# Altium schematic symbol library lib_ic_RES.SchLib: 51 symbols
Pins are listed as number, name and electrical type; pins without a type are passive.

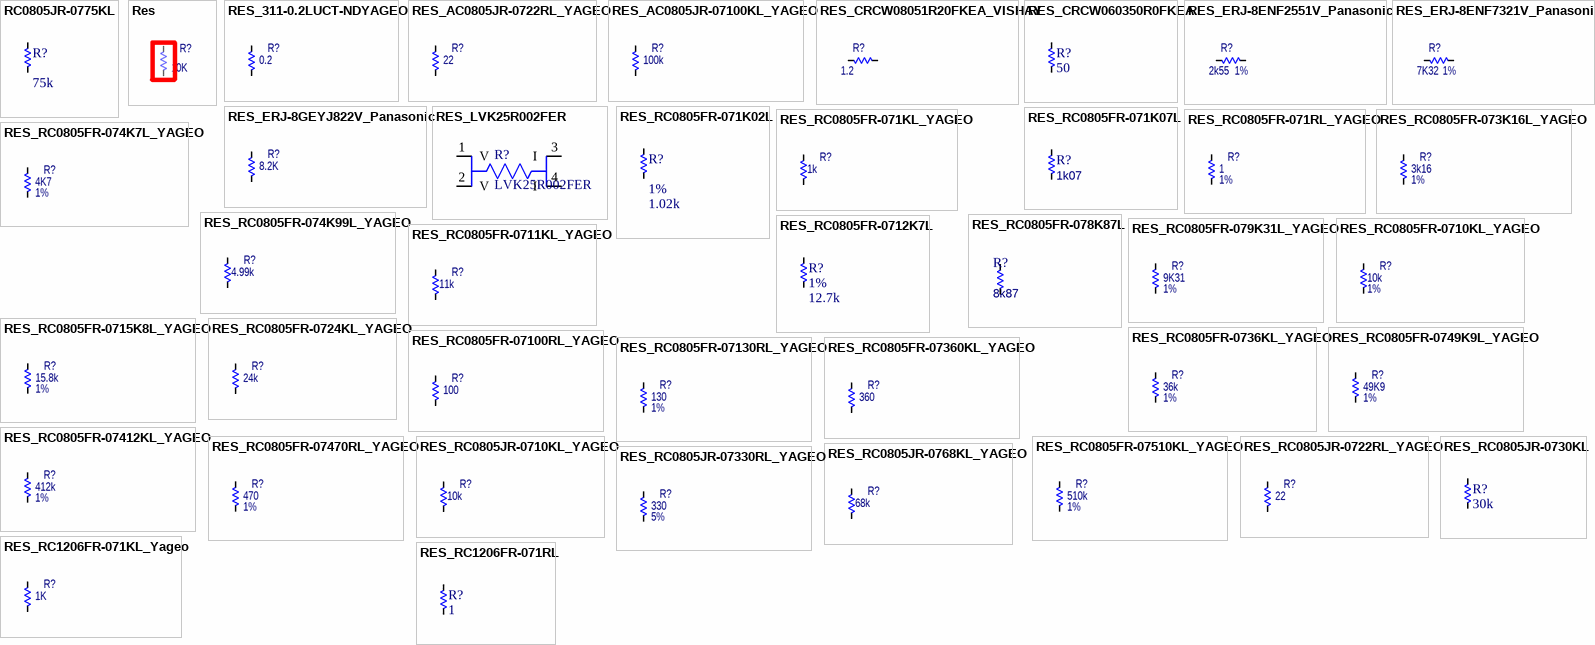
[diagram p0: symbols RC0805JR-0775KL to RES_RC1206FR-071RL]

## RC0805JR-0775KL
designator R?  value 75k  (hidden comment: *)
Res Thick Film 0805 75K Ohm 5% 0.125W(1/8W) ±100ppm/C Molded SMD Paper T/R; Manufacturer: Yageo; Manufacturer Part Number: RC0805JR-0775KL; Temperature Coefficient: 100ppm/°C; Power Rating: 125mW; Voltage Rating: 150V; Supplier 1: Digi-Key; Supplier Part Number 1: 311-75KARCT-ND; Category: Chip SMD Resistors; Case/Package: 0805; Contact Plating: Tin,Matte,Lead; Case Code (Imperial): 0805; Case Code (Metric): 2012; Size Code: 0805; Min Operating Temperature: -55°C; Max Operating Temperature: 155°C; Tolerance: 5%; Resistor Type: Thick Film; Packaging: Tape and Reel; Construction: Rectangular; Termination: SMD/SMT; Series: RC; Number of Terminations: 2; Max Power Dissipation: 125mW; Features: Moisture Resistant; Voltage Rating (DC): 150V; Package Quantity: 1; Length: 2mm; Width: 1.25mm; Height: 0.024inch; Depth: 1.25mm; Radiation Hardening: No; Military Standard: Not; RoHS Compliant: Yes; Lead Free: Lead Free; ComponentLink1URL: https://datasheet.ciiva.com/2519/pyu-r-int-thick-7-2519243.pdf?src-supplier=Digi-Key; ComponentLink1Description: https://datasheet.ciiva.com/2519/pyu-r-int-thick-7-2519243.pdf?src-supplier=Digi-Key; ComponentLink2URL: https://datasheet.ciiva.com/2519/pyu-r-int-thick-7-2519244.pdf?src-supplier=Digi-Key; ComponentLink2Description: https://datasheet.ciiva.com/2519/pyu-r-int-thick-7-2519244.pdf?src-supplier=Digi-Key; ComponentLink3URL: https://datasheet.ciiva.com/17361/rc0805-17361116.pdf?src-supplier=Future+Electronics; ComponentLink3Description: https://datasheet.ciiva.com/17361/rc0805-17361116.pdf?src-supplier=Future+Electronics; ComponentLink4URL: https://datasheet.ciiva.com/2519/pyu-r-int-thick-7-2519245.pdf?src-supplier=Digi-Key; ComponentLink4Description: https://datasheet.ciiva.com/2519/pyu-r-int-thick-7-2519245.pdf?src-supplier=Digi-Key
footprint RESC2013X065BN (Chip Resistor, 0805, Body 2.0x1.3mm, Pads modified for 1mm spacing.)
pins: 1 T1, 2 T2

## Res
designator R?  value 10K  (hidden comment: *)
Res; Manufacturer: Yageo; Tolerance: 1%; Power Rating: 1/4W; BOM Populate: *; Supplier Part No: *; Supplier: *; Digikey Part Number: 311-10.0KFRCT-ND
footprint RESC2013X065BN (Chip Resistor, 0805, Body 2.0x1.3mm, Pads modified for 1mm spacing.)
pins: 1 T1, 2 T2

## RES_311-0.2LUCT-NDYAGEO
designator R?  value 0.2  (hidden comment: *)
RES 0.2 OHM 1% 1/4W 0805; Manufacturer: Yageo; Manufacturer Part Number: RL0805FR-7W0R2L.; Tolerance: 1%; Digikey Part Number: 311-0.2LUCT-ND; Power Rating: 1/4W; Mouser Part Number: 603-RL0805FR-7W0R2L
footprint RESC2013X065BN (Chip Resistor, 0805, Body 2.0x1.3mm, Pads modified for 1mm spacing.)
pins: 1 T1, 2 T2

## RES_AC0805JR-0722RL_YAGEO
designator R?  value 22  (hidden comment: *)
RES SMD 22 OHM 5% 1/8W 0805; Manufacturer: Yageo; Manufacturer Part Number: AC0805JR-0722RL; BOM Populate: *; Supplier Part No: *; Supplier: *; Tolerance: 5%; Digikey Part Number: 311-22ARCT-ND; Power Rating: 1/8W; Mouser Part Number: 603-AC0805JR-0722RL
footprint RESC2013X065BN (Chip Resistor, 0805, Body 2.0x1.3mm, Pads modified for 1mm spacing.)
pins: 1 T1, 2 T2

## RES_AC0805JR-07100KL_YAGEO
designator R?  value 100k  (hidden comment: *)
RES SMD 100K OHM 5% 1/8W 0805; Manufacturer: Yageo; Manufacturer Part Number: AC0805JR-07100KL; BOM Populate: *; Supplier Part No: *; Supplier: *; Tolerance: 5%; Digikey Part Number: YAG3756CT-ND; Power Rating: 1/8W; Mouser Part Number: 603-AC0805JR-07100KL
footprint RESC2013X065BN (Chip Resistor, 0805, Body 2.0x1.3mm, Pads modified for 1mm spacing.)
pins: 1 T1, 2 T2

## RES_CRCW08051R20FKEA_VISHAY
designator R?  value 1.2  (hidden comment: *)
RES SMD 1.2 OHM 1% 1/8W 0805; Manufacturer: Vishay Dale; Manufacturer Part Number: CRCW08051R20FKEA; Digikey Part Number: 541-1.20CCCT-ND; Power Rating: 1/8W; Mouser Part Number: 71-CRCW08051R20FKEA; Tolerance: 1%
footprint RESC2013X065BN (Chip Resistor, 0805, Body 2.0x1.3mm, Pads modified for 1mm spacing.)
pins: 1 T1, 2 T2

## RES_CRCW060350R0FKEA
designator R?, comment value 50  (hidden comment: CRCW060350R0FKEA)
VISHAY - CRCW060350R0FKEA - SMD Chip Resistor, 0603 [1608 Metric], 50 ohm, CRCW e3 Series, 75 V, Thick Film, 100 mW; Manufacturer: Vishay Dale; Tolerance: 1%; Resistance: 50R; Temperature Coefficient: 100ppm/°C; Voltage Rating: 75V; Power Rating: 100mW; Supplier 1: Digi-Key; Supplier Part Number 1: 541-3318-1-ND; Manufacturer Part Number: CRCW060350R0FKEA; RoHS: Yes; Category: Chip SMD Resistors; Stock 1: 71586; Pricing 1: 1=0,10000, 10=0,03600, 100=0,01480, 1000=0,00663, 2500=0,00575 (USD); Mount: Surface Mount; Case/Package: 0603; Number of Pins: 2; Contact Plating: Tin; Weight: 7.1E-05oz; Case Code (Imperial): 0603; Case Code (Metric): 1608; Min Operating Temperature: -55°C; Max Operating Temperature: 155°C; Resistor Type: Thick Film; Packaging: Tape and Reel; Package Quantity: 5000; Termination: SMD/SMT; Voltage Rating (DC): 75V; Length: 1.55mm; Width: 0.85mm; Height: 0.45mm; Depth: 0.85mm; Radiation Hardening: No; REACH SVHC: No SVHC; Military Standard: Not; Lead Free: Lead Free; ComponentLink1URL: https://datasheet.ciiva.com/7792/1359338-7792320.pdf?src-supplier=Element14; ComponentLink1Description: https://datasheet.ciiva.com/7792/1359338-7792320.pdf?src-supplier=Element14; ComponentLink2URL: https://datasheet.ciiva.com/7657/1786679-7657103.pdf?src-supplier=Element14; ComponentLink2Description: https://datasheet.ciiva.com/7657/1786679-7657103.pdf?src-supplier=Element14; ComponentLink3URL: https://datasheet.ciiva.com/22665/1697183-22665684.pdf?src-supplier=Element14; ComponentLink3Description: https://datasheet.ciiva.com/22665/1697183-22665684.pdf?src-supplier=Element14; ComponentLink4URL: https://datasheet.ciiva.com/6195/1359338-6195078.pdf?src-supplier=Farnell; ComponentLink4Description: https://datasheet.ciiva.com/6195/1359338-6195078.pdf?src-supplier=Farnell; ComponentLink5URL: https://datasheet.ciiva.com/16884/dcrcwe3-16884668.pdf?src-supplier=Avnet+Europe; ComponentLink5Description: https://datasheet.ciiva.com/16884/dcrcwe3-16884668.pdf?src-supplier=Avnet+Europe; ComponentLink6URL: https://datasheet.ciiva.com/16494/dcrcwe3-16494475.pdf?src-supplier=Future+Electronics; ComponentLink6Description: https://datasheet.ciiva.com/16494/dcrcwe3-16494475.pdf?src-supplier=Future+Electronics; ComponentLink7URL: https://datasheet.ciiva.com/16784/70201119-16784459.pdf?src-supplier=Allied+Electronics; ComponentLink7Description: https://datasheet.ciiva.com/16784/70201119-16784459.pdf?src-supplier=Allied+Electronics; ComponentLink8URL: https://datasheet.ciiva.com/16720/70201119-16720645.pdf?src-supplier=Allied+Electronics; ComponentLink8Description: https://datasheet.ciiva.com/16720/70201119-16720645.pdf?src-supplier=Allied+Electronics; ComponentLink9URL: https://datasheet.ciiva.com/6195/dcrcwe3-6195095.pdf?src-supplier=Farnell; ComponentLink9Description: https://datasheet.ciiva.com/6195/dcrcwe3-6195095.pdf?src-supplier=Farnell; ComponentLink10URL: https://datasheet.ciiva.com/5550/dcrcwe3-109170-5550010.pdf?src-supplier=Mouser; ComponentLink10Description: https://datasheet.ciiva.com/5550/dcrcwe3-109170-5550010.pdf?src-supplier=Mouser
footprint RES_RCS0603E3_VISHAY
pins: 1 T1, 2 T2

## RES_ERJ-8ENF2551V_Panasonic
designator R?  value 2k55  Tolerance: 1%  (hidden comment: *)
RES SMD 2.55K OHM 1% 1/4W 1206; Manufacturer: Panasonic; Manufacturer Part Number: ERJ-8ENF2551V; BOM Populate: *; Supplier Part No: *; Supplier: *; Digikey Part Number: P2.55KFCT-ND; Power Rating: 1/4W; Mouser Part Number: 667-ERJ-8ENF2551V
footprint RESC3216N (Chip Resistor, Body 3.2x1.6mm, IPC Medium Density)
pins: 1 T1, 2 T2

## RES_ERJ-8ENF7321V_Panasonic
designator R?  value 7K32  Tolerance: 1%  (hidden comment: *)
RES SMD 7.32K OHM 1% 1/4W 1206; Manufacturer: Panasonic; Manufacturer Part Number: ERJ-8ENF7321V; BOM Populate: *; Supplier Part No: *; Supplier: *; Digikey Part Number: P7.32KFCT-ND; Power Rating: 1/4W; Mouser Part Number: 667-ERJ-8ENF7321V
footprint RESC3216N (Chip Resistor, Body 3.2x1.6mm, IPC Medium Density)
pins: 1 T1, 2 T2

## RES_ERJ-8GEYJ822V_Panasonic
designator R?  value 8.2K  (hidden comment: *)
RES SMD 8.2K OHM 5% 1/4W 1206; Manufacturer: Panasonic; Manufacturer Part Number: ERJ-8GEYJ822V; BOM Populate: *; Supplier Part No: *; Supplier: *; Tolerance: 5%; Digikey Part Number: P8.2KECT-ND; Power Rating: 1/4W; Mouser Part Number: 667-ERJ-8GEYJ822V
footprint RESC3216N (Chip Resistor, Body 3.2x1.6mm, IPC Medium Density)
pins: 1 T1, 2 T2

## RES_LVK25R002FER
designator R?, comment LVK25R002FER
RES 0.002 OHM 2W 2512 WIDE; Manufacturer: Ohmite; Temperature Coefficient: 200ppm/°C; Resistance: 2mR; Tolerance: 1%; Supplier 1: Digi-Key; Supplier Part Number 1: LVK25R002FERCT-ND; Manufacturer Part Number: LVK25R002FER; RoHS: Yes; Category: Chip SMD Resistors; Stock 1: 30986; Pricing 1: 1=1,98000, 10=1,76000, 25=1,63200, 50=1,53600, 100=1,34400, 250=1,15200, 500=0,96000 (USD); Mount: Surface Mount; Case/Package: 1224; Number of Pins: 2; Case Code (Metric): 3264; Case Code (Imperial): 1224; Min Operating Temperature: -40°C; Max Operating Temperature: 125°C; Termination: SMD/SMT; Power Rating: 2W; Packaging: Tape and Reel; Package Quantity: 1000; Resistor Type: Metal Film,Thick Film,Thin Film; Length: 3.2mm; Width: 6.4mm; Height: 0.5mm; Depth: 6.4mm; REACH SVHC: Unknown; ComponentLink1URL: https://datasheet.ciiva.com/28655/1928848-28655701.pdf?src-supplier=Element14; ComponentLink1Description: https://datasheet.ciiva.com/28655/1928848-28655701.pdf?src-supplier=Element14; ComponentLink2URL: https://datasheet.ciiva.com/5970/575641-5970646.pdf?src-supplier=Farnell; ComponentLink2Description: https://datasheet.ciiva.com/5970/575641-5970646.pdf?src-supplier=Farnell; ComponentLink3URL: https://datasheet.ciiva.com/16783/70024650-16783654.pdf?src-supplier=Allied+Electronics; ComponentLink3Description: https://datasheet.ciiva.com/16783/70024650-16783654.pdf?src-supplier=Allied+Electronics; ComponentLink4URL: https://datasheet.ciiva.com/46385/1786747-46385481.pdf?src-supplier=Element14; ComponentLink4Description: https://datasheet.ciiva.com/46385/1786747-46385481.pdf?src-supplier=Element14; ComponentLink5URL: https://datasheet.ciiva.com/15865/40lvk-15865323.pdf?src-supplier=Onlinecomponents.com; ComponentLink5Description: https://datasheet.ciiva.com/15865/40lvk-15865323.pdf?src-supplier=Onlinecomponents.com; ComponentLink6URL: https://datasheet.ciiva.com/7715/575641-7715549.pdf?src-supplier=Element14; ComponentLink6Description: https://datasheet.ciiva.com/7715/575641-7715549.pdf?src-supplier=Element14; ComponentLink7URL: https://datasheet.ciiva.com/7715/575641-7715550.pdf?src-supplier=Element14; ComponentLink7Description: https://datasheet.ciiva.com/7715/575641-7715550.pdf?src-supplier=Element14
footprint RES_LVK25R002FER
pins: 1 V, 2 V, 3 I, 4 I

## RES_RC0805FR-071K02L
designator R?  value 1.02k  Tolerance: 1%  (hidden comment: *)
RES SMD 1.02K OHM 1% 1/8W 0805; Manufacturer: Yageo; Manufacturer Part Number: RC0805FR-071K02L; Voltage Rating: 150V; Power Rating: 125mW; Temperature Coefficient: 100ppm/°C; Supplier 1: Digi-Key; Supplier Part Number 1: 311-1.02KCRCT-ND; Category: Chip SMD Resistors; Case/Package: 0805; Case Code (Imperial): 0805; Case Code (Metric): 2012; Size Code: 0805; Min Operating Temperature: -55°C; Max Operating Temperature: 155°C; Packaging: Tape and Reel; Termination: SMD/SMT; Resistor Type: Thick Film; Voltage Rating (DC): 150V; Features: Moisture Resistant; Series: RC; Max Power Dissipation: 125mW; Number of Terminations: 2; Construction: Rectangular; Length: 2mm; Width: 1.25mm; Height: 0.5mm; Depth: 1.25mm; Military Standard: Not; Lead Free: Lead Free; RoHS Compliant: Yes; ComponentLink1URL: https://datasheet.ciiva.com/12557/rc0805-257173-12557847.pdf?src-supplier=Mouser; ComponentLink1Description: https://datasheet.ciiva.com/12557/rc0805-257173-12557847.pdf?src-supplier=Mouser; ComponentLink2URL: https://datasheet.ciiva.com/16746/rc0805-16746216.pdf?src-supplier=Future+Electronics; ComponentLink2Description: https://datasheet.ciiva.com/16746/rc0805-16746216.pdf?src-supplier=Future+Electronics
footprint RESC2013X065BN (Chip Resistor, 0805, Body 2.0x1.3mm, Pads modified for 1mm spacing.)
pins: 1 T1, 2 T2

## RES_RC0805FR-071K07L
designator R?  value 1k07  (hidden comment: *)
Res Thick Film 0805 1.07K Ohm 1% 1/8W 100ppm/C Molded SMD Paper T/R; Manufacturer: Yageo; Manufacturer Part Number: RC0805FR-071K07L; Resistance: 1.07kR; Temperature Coefficient: 100ppm/°C; Power Rating: 125mW; Voltage Rating: 150V; Supplier 1: Digi-Key; RoHS: Yes; Category: Chip SMD Resistors; Stock 1: 47079; Pricing 1: 1=0,10000, 10=0,04000, 100=0,01620, 1000=0,00726, 2500=0,00630 (USD); Case/Package: 0805; Contact Plating: Tin,Matte; Case Code (Imperial): 0805; Case Code (Metric): 2012; Size Code: 0805; Min Operating Temperature: -55°C; Max Operating Temperature: 155°C; Tolerance: 1%; Resistor Type: Thick Film; Packaging: Tape and Reel; Package Quantity: 1; Termination: SMD/SMT; Number of Terminations: 2; Max Power Dissipation: 125mW; Voltage Rating (DC): 150V; Features: Moisture Resistant; Series: RC; Construction: Rectangular; Length: 2mm; Width: 1.25mm; Height: 0.024inch; Depth: 1.25mm; Military Standard: Not; Lead Free: Lead Free; RoHS Compliant: Yes; ComponentLink1URL: https://datasheet.ciiva.com/17054/rc0805-17054582.pdf?src-supplier=Future+Electronics; ComponentLink1Description: https://datasheet.ciiva.com/17054/rc0805-17054582.pdf?src-supplier=Future+Electronics; ComponentLink2URL: https://datasheet.ciiva.com/2491/pyu-r-int-thick-7-2491690.pdf?src-supplier=Digi-Key; ComponentLink2Description: https://datasheet.ciiva.com/2491/pyu-r-int-thick-7-2491690.pdf?src-supplier=Digi-Key; ComponentLink3URL: https://datasheet.ciiva.com/2491/pyu-r-int-thick-7-2491691.pdf?src-supplier=Digi-Key; ComponentLink3Description: https://datasheet.ciiva.com/2491/pyu-r-int-thick-7-2491691.pdf?src-supplier=Digi-Key; ComponentLink4URL: https://datasheet.ciiva.com/2491/pyu-r-int-thick-7-2491692.pdf?src-supplier=Digi-Key; ComponentLink4Description: https://datasheet.ciiva.com/2491/pyu-r-int-thick-7-2491692.pdf?src-supplier=Digi-Key; Supplier Part Number 1: 311-1.07KCRCT-ND
footprint RESC2013X065BN (Chip Resistor, 0805, Body 2.0x1.3mm, Pads modified for 1mm spacing.)
pins: 1 T1, 2 T2

## RES_RC0805FR-071KL_YAGEO
designator R?  value 1k  (hidden comment: *)
RES SMD 1K OHM 1% 1/8W 0805; Manufacturer: Yageo; Manufacturer Part Number: RC0805FR-071KL; Tolerance: 1%; Digikey Part Number: 311-1.00KCRCT-ND; Power Rating: 1/8W; Mouser Part Number: 603-RC0805FR-071KL
footprint RESC2013X065BN (Chip Resistor, 0805, Body 2.0x1.3mm, Pads modified for 1mm spacing.)
pins: 1 T1, 2 T2

## RES_RC0805FR-071RL_YAGEO
designator R?  value 1  Tolerance: 1%  (hidden comment: *)
RES SMD 1 OHM 1% 1/8W 0805; Manufacturer: Yageo; Manufacturer Part Number: RC0805FR-071RL; BOM Populate: *; Supplier Part No: *; Supplier: *; Digikey Part Number: 311-1.00CRCT-ND; Power Rating: 1/8W; Mouser Part Number: 603-RC0805FR-071RL
footprint RESC2013X065BN (Chip Resistor, 0805, Body 2.0x1.3mm, Pads modified for 1mm spacing.)
pins: 1 T1, 2 T2

## RES_RC0805FR-073K16L_YAGEO
designator R?  value 3k16  Tolerance: 1%  (hidden comment: *)
RES SMD 3.16K OHM 1% 1/8W 0805; Manufacturer: Yageo; Manufacturer Part Number: RC0805FR-073K16L; BOM Populate: *; Supplier Part No: *; Supplier: *; Digikey Part Number: 311-3.16KCRCT-ND; Power Rating: 1/8W; Mouser Part Number: 603-RC0805FR-073K16L
footprint RESC2013X065BN (Chip Resistor, 0805, Body 2.0x1.3mm, Pads modified for 1mm spacing.)
pins: 1 T1, 2 T2

## RES_RC0805FR-074K7L_YAGEO
designator R?  value 4K7  Tolerance: 1%  (hidden comment: *)
RES SMD 4.7K OHM 1% 1/8W 0805; Manufacturer: Yageo; Manufacturer Part Number: RC0805FR-074K7L; BOM Populate: *; Supplier Part No: *; Supplier: *; Digikey Part Number: 311-4.70KCRCT-ND; Power Rating: 1/8W; Mouser Part Number: 603-RC0805FR-074K7L
footprint RESC2013X065BN (Chip Resistor, 0805, Body 2.0x1.3mm, Pads modified for 1mm spacing.)
pins: 1 T1, 2 T2

## RES_RC0805FR-074K99L_YAGEO
designator R?  value 4.99k  (hidden comment: *)
RES SMD 4.99K OHM 1% 1/8W 0805; Manufacturer: Yageo; Manufacturer Part Number: RC0805FR-074K99L; Tolerance: 1%; Digikey Part Number: 311-4.99KCRCT-ND; Power Rating: 1/8W; Mouser Part Number: 603-RC0805FR-074K99L
footprint RESC2013X065BN (Chip Resistor, 0805, Body 2.0x1.3mm, Pads modified for 1mm spacing.)
pins: 1 T1, 2 T2

## RES_RC0805FR-078K87L
designator R?  value 8k87  (hidden comment: *)
Res Thick Film 0805 8.87K Ohm 1% 0.125W(1/8W) ±100ppm/C Epoxy Pad SMD T/R; Manufacturer: Yageo; Manufacturer Part Number: RC0805FR-078K87L; Temperature Coefficient: 100ppm/°C; Power Rating: 125mW; Voltage Rating: 150V; Supplier 1: Digi-Key; Supplier Part Number 1: 311-8.87KCRCT-ND; Category: Chip SMD Resistors; Case/Package: 0805; Contact Plating: Tin,Lead,Matte; Case Code (Metric): 2012; Case Code (Imperial): 0805; Size Code: 0805; Min Operating Temperature: -55°C; Max Operating Temperature: 155°C; Tolerance: 1%; Resistor Type: Thick Film; Package Quantity: 1; Packaging: Tape and Reel; Number of Terminations: 2; Termination: SMD/SMT; Max Power Dissipation: 125mW; Voltage Rating (DC): 150V; Features: Moisture Resistant; Series: RC; Construction: Rectangular; Length: 2mm; Width: 0.049inch; Height: 0.024inch; Depth: 1.25mm; Radiation Hardening: No; Military Standard: Not; Lead Free: Lead Free; RoHS Compliant: Yes; ComponentLink1URL: https://datasheet.ciiva.com/17423/rc0805-17423031.pdf?src-supplier=Future+Electronics; ComponentLink1Description: https://datasheet.ciiva.com/17423/rc0805-17423031.pdf?src-supplier=Future+Electronics; ComponentLink2URL: https://datasheet.ciiva.com/2491/pyu-r-int-thick-7-2491576.pdf?src-supplier=Digi-Key; ComponentLink2Description: https://datasheet.ciiva.com/2491/pyu-r-int-thick-7-2491576.pdf?src-supplier=Digi-Key; ComponentLink3URL: https://datasheet.ciiva.com/2491/pyu-r-int-thick-7-2491577.pdf?src-supplier=Digi-Key; ComponentLink3Description: https://datasheet.ciiva.com/2491/pyu-r-int-thick-7-2491577.pdf?src-supplier=Digi-Key; ComponentLink4URL: https://datasheet.ciiva.com/2491/pyu-r-int-thick-7-2491578.pdf?src-supplier=Digi-Key; ComponentLink4Description: https://datasheet.ciiva.com/2491/pyu-r-int-thick-7-2491578.pdf?src-supplier=Digi-Key
footprint RESC2013X065BN (Chip Resistor, 0805, Body 2.0x1.3mm, Pads modified for 1mm spacing.)
pins: 1 T1, 2 T2

## RES_RC0805FR-079K31L_YAGEO
designator R?  value 9K31  Tolerance: 1%  (hidden comment: *)
RES SMD 9.31K OHM 1% 1/8W 0805; Manufacturer: Yageo; Manufacturer Part Number: RC0805FR-079K31L; BOM Populate: *; Supplier Part No: *; Supplier: *; Digikey Part Number: 311-9.31KCRCT-ND; Power Rating: 1/8W; Mouser Part Number: 603-RC0805FR-079K31L
footprint RESC2013X065BN (Chip Resistor, 0805, Body 2.0x1.3mm, Pads modified for 1mm spacing.)
pins: 1 T1, 2 T2

## RES_RC0805FR-0710KL_YAGEO
designator R?  value 10k  Tolerance: 1%  (hidden comment: *)
RES SMD 10K OHM 1% 1/8W 0805; Manufacturer: Yageo; Manufacturer Part Number: RC0805FR-0710KL; BOM Populate: *; Supplier Part No: *; Supplier: *; Digikey Part Number: 311-10.0KCRCT-ND; Power Rating: 1/8W; Mouser Part Number: 603-RC0805FR-0710KL
footprint RESC2013X065BN (Chip Resistor, 0805, Body 2.0x1.3mm, Pads modified for 1mm spacing.)
pins: 1 T1, 2 T2

## RES_RC0805FR-0711KL_YAGEO
designator R?  value 11k  (hidden comment: *)
RES SMD 11K OHM 1% 1/8W 0805; Manufacturer: Yageo; Manufacturer Part Number: RC0805FR-0711KL; Tolerance: 1%; Digikey Part Number: 311-11.0KCRCT-ND; Power Rating: 1/8W; Mouser Part Number: 603-RC0805FR-0711KL
footprint RESC2013X065BN (Chip Resistor, 0805, Body 2.0x1.3mm, Pads modified for 1mm spacing.)
pins: 1 T1, 2 T2

## RES_RC0805FR-0712K7L
designator R?  value 12.7k  Tolerance: 1%  (hidden comment: *)
RES SMD 12.7K OHM 1% 1/8W 0805; Manufacturer: Yageo; Manufacturer Part Number: RC0805FR-0712K7L; Voltage Rating: 150V; Power Rating: 125mW; Temperature Coefficient: 100ppm/°C; Supplier 1: Digi-Key; Supplier Part Number 1: 311-12.7KCRCT-ND; Category: Chip SMD Resistors; Case/Package: 0805; Case Code (Imperial): 0805; Case Code (Metric): 2012; Size Code: 0805; Min Operating Temperature: -55°C; Max Operating Temperature: 155°C; Packaging: Tape and Reel; Package Quantity: 1; Termination: SMD/SMT; Resistor Type: Thick Film; Number of Terminations: 2; Max Power Dissipation: 125mW; Voltage Rating (DC): 150V; Features: Moisture Resistant; Series: RC; Construction: Rectangular; Length: 2mm; Width: 1.25mm; Height: 0.024inch; Depth: 1.25mm; Military Standard: Not; Lead Free: Lead Free; RoHS Compliant: Yes; ComponentLink1URL: https://datasheet.ciiva.com/12555/rc0805-257173-12555397.pdf?src-supplier=Mouser; ComponentLink1Description: https://datasheet.ciiva.com/12555/rc0805-257173-12555397.pdf?src-supplier=Mouser; ComponentLink2URL: https://datasheet.ciiva.com/2491/pyu-r-int-thick-7-2491627.pdf?src-supplier=Digi-Key; ComponentLink2Description: https://datasheet.ciiva.com/2491/pyu-r-int-thick-7-2491627.pdf?src-supplier=Digi-Key; ComponentLink3URL: https://datasheet.ciiva.com/2491/pyu-r-int-thick-7-2491628.pdf?src-supplier=Digi-Key; ComponentLink3Description: https://datasheet.ciiva.com/2491/pyu-r-int-thick-7-2491628.pdf?src-supplier=Digi-Key; ComponentLink4URL: https://datasheet.ciiva.com/2491/pyu-r-int-thick-7-2491629.pdf?src-supplier=Digi-Key; ComponentLink4Description: https://datasheet.ciiva.com/2491/pyu-r-int-thick-7-2491629.pdf?src-supplier=Digi-Key
footprint RESC2013X065BN (Chip Resistor, 0805, Body 2.0x1.3mm, Pads modified for 1mm spacing.)
pins: 1 T1, 2 T2

## RES_RC0805FR-0715K8L_YAGEO
designator R?  value 15.8k  Tolerance: 1%  (hidden comment: *)
RES SMD 15.8K OHM 1% 1/8W 0805; Manufacturer: Yageo; Manufacturer Part Number: RC0805FR-0715K8L; BOM Populate: *; Supplier Part No: *; Supplier: *; Digikey Part Number: 311-15.8KCRCT-ND; Power Rating: 1/8W; Mouser Part Number: 603-RC0805FR-0715K8L
footprint RESC2013X065BN (Chip Resistor, 0805, Body 2.0x1.3mm, Pads modified for 1mm spacing.)
pins: 1 T1, 2 T2

## RES_RC0805FR-0724KL_YAGEO
designator R?  value 24k  (hidden comment: *)
RES SMD 24K OHM 1% 1/8W 0805; Manufacturer: Yageo; Manufacturer Part Number: RC0805FR-0724KL; Tolerance: 1%; Digikey Part Number: 311-24.0KCRCT-ND; Power Rating: 1/8W; Mouser Part Number: 603-RC0805FR-0724KL
footprint RESC2013X065BN (Chip Resistor, 0805, Body 2.0x1.3mm, Pads modified for 1mm spacing.)
pins: 1 T1, 2 T2

## RES_RC0805FR-0736KL_YAGEO
designator R?  value 36k  Tolerance: 1%  (hidden comment: *)
RES SMD 36K OHM 1% 1/8W 0805; Manufacturer: Yageo; Manufacturer Part Number: RC0805FR-0736KL; Digikey Part Number: 311-36.0KCRCT-ND; Power Rating: 1/8W; Mouser Part Number: 603-RC0805FR-0736KL
footprint RESC2013X065BN (Chip Resistor, 0805, Body 2.0x1.3mm, Pads modified for 1mm spacing.)
pins: 1 T1, 2 T2

## RES_RC0805FR-0749K9L_YAGEO
designator R?  value 49K9  Tolerance: 1%  (hidden comment: *)
RES SMD 49.9K OHM 1% 1/8W 0805; Manufacturer: Yageo; Manufacturer Part Number: RC0805FR-0749K9L; BOM Populate: *; Supplier Part No: *; Supplier: *; Digikey Part Number: 311-49.9KCRCT-ND; Power Rating: 1/8W; Mouser Part Number: 603-RC0805FR-0749K9L
footprint RESC2013X065BN (Chip Resistor, 0805, Body 2.0x1.3mm, Pads modified for 1mm spacing.)
pins: 1 T1, 2 T2

## RES_RC0805FR-07100RL_YAGEO
designator R?  value 100  (hidden comment: *)
RES SMD 100 OHM 1% 1/8W 0805; Manufacturer: Yageo; Manufacturer Part Number: RC0805FR-07100RL; BOM Populate: *; Supplier Part No: *; Supplier: *; Tolerance: 1%; Digikey Part Number: 311-100CRCT-ND; Power Rating: 1/8W; Mouser Part Number: 603-RC0805FR-07100RL
footprint RESC2013X065BN (Chip Resistor, 0805, Body 2.0x1.3mm, Pads modified for 1mm spacing.)
pins: 1 T1, 2 T2

## RES_RC0805FR-07130RL_YAGEO
designator R?  value 130  Tolerance: 1%  (hidden comment: *)
RES SMD 130 OHM 1% 1/8W 0805; Manufacturer: Yageo; Manufacturer Part Number: RC0805FR-07130RL; BOM Populate: *; Supplier Part No: *; Supplier: *; Digikey Part Number: 311-130CRCT-ND; Power Rating: 1/8W; Mouser Part Number: 603-RC0805FR-07130RL
footprint RESC2013X065BN (Chip Resistor, 0805, Body 2.0x1.3mm, Pads modified for 1mm spacing.)
pins: 1 T1, 2 T2

## RES_RC0805FR-07360KL_YAGEO
designator R?  value 360  (hidden comment: *)
RES SMD 360K OHM 1% 1/8W 0805; Manufacturer: Yageo; Manufacturer Part Number: RC0805FR-07360KL; Digikey Part Number: 311-360KCRCT-ND; Power Rating: 1/8W; Mouser Part Number: 603-RC0805FR-07360KL; Tolerance: 1%
footprint RESC2013X065BN (Chip Resistor, 0805, Body 2.0x1.3mm, Pads modified for 1mm spacing.)
pins: 1 T1, 2 T2

## RES_RC0805FR-07412KL_YAGEO
designator R?  value 412k  Tolerance: 1%  (hidden comment: *)
RES SMD 412K OHM 1% 1/8W 0805; Manufacturer: Yageo; Manufacturer Part Number: RC0805FR-07412KL; BOM Populate: *; Supplier Part No: *; Supplier: *; Digikey Part Number: 311-412KCRCT-ND; Power Rating: 1/8W; Mouser Part Number: 603-RC0805FR-07412KL
footprint RESC2013X065BN (Chip Resistor, 0805, Body 2.0x1.3mm, Pads modified for 1mm spacing.)
pins: 1 T1, 2 T2

## RES_RC0805FR-07470RL_YAGEO
designator R?  value 470  Tolerance: 1%  (hidden comment: *)
RES SMD 470 OHM 1% 1/8W 0805; Manufacturer: Yageo; Manufacturer Part Number: RC0805FR-07470RL; Digikey Part Number: 311-470CRCT-ND; Power Rating: 1/8W; Mouser Part Number: 603-RC0805FR-07470RL
footprint RESC2013X065BN (Chip Resistor, 0805, Body 2.0x1.3mm, Pads modified for 1mm spacing.)
pins: 1 T1, 2 T2

## RES_RC0805FR-07510KL_YAGEO
designator R?  value 510k  Tolerance: 1%  (hidden comment: *)
RES SMD 510K OHM 1% 1/8W 0805; Manufacturer: Yageo; Manufacturer Part Number: RC0805FR-07510KL; BOM Populate: *; Supplier Part No: *; Supplier: *; Digikey Part Number: 311-510KCRCT-ND; Power Rating: 1/8W; Mouser Part Number: 603-RC0805FR-07510KL
footprint RESC2013X065BN (Chip Resistor, 0805, Body 2.0x1.3mm, Pads modified for 1mm spacing.)
pins: 1 T1, 2 T2

## RES_RC0805JR-0710KL_YAGEO
designator R?  value 10k  (hidden comment: *)
RES SMD 10K OHM 5% 1/8W 0805; Manufacturer: Yageo; Manufacturer Part Number: RC0805JR-0710KL; BOM Populate: *; Supplier Part No: *; Supplier: *; Tolerance: 5%; Digikey Part Number: 311-10KARCT-ND; Power Rating: 1/8W; Mouser Part Number: 603-RC0805JR-0710KL
footprint RESC2013X065BN (Chip Resistor, 0805, Body 2.0x1.3mm, Pads modified for 1mm spacing.)
pins: 1 T1, 2 T2

## RES_RC0805JR-0722RL_YAGEO
designator R?  value 22  (hidden comment: *)
RES SMD 22 OHM 5% 1/8W 0805; Manufacturer: Yageo; Manufacturer Part Number: RC0805JR-0722RL; BOM Populate: *; Supplier Part No: *; Supplier: *; Tolerance: 5%; Digikey Part Number: 311-22ARCT-ND; Power Rating: 1/8W; Mouser Part Number: 603-RC0805JR-0722RL
footprint RESC2013X065BN (Chip Resistor, 0805, Body 2.0x1.3mm, Pads modified for 1mm spacing.)
pins: 1 T1, 2 T2

## RES_RC0805JR-0730KL
designator R?  value 30k  (hidden comment: *)
Res Thick Film 0805 30K Ohm 5% 1/8W 100ppm/C Molded SMD SMD Paper T/R; Manufacturer: Yageo; Manufacturer Part Number: RC0805JR-0730KL; Temperature Coefficient: 100ppm/°C; Power Rating: 125mW; Voltage Rating: 150V; Supplier 1: Digi-Key; Supplier Part Number 1: 311-30KARCT-ND; Category: Chip SMD Resistors; Case/Package: 0805; Contact Plating: Tin,Lead,Matte; Case Code (Imperial): 0805; Case Code (Metric): 2012; Size Code: 0805; Min Operating Temperature: -55°C; Max Operating Temperature: 155°C; Tolerance: 5%; Resistor Type: Thick Film; Packaging: Tape and Reel; Construction: Rectangular; Termination: SMD/SMT; Series: RC; Features: Moisture Resistant; Max Power Dissipation: 125mW; Number of Terminations: 2; Voltage Rating (DC): 150V; Length: 2mm; Depth: 1.25mm; Radiation Hardening: No; Military Standard: Not; RoHS Compliant: Yes; Lead Free: Lead Free; ComponentLink1URL: https://datasheet.ciiva.com/16747/rc0805-16747179.pdf?src-supplier=Future+Electronics; ComponentLink1Description: https://datasheet.ciiva.com/16747/rc0805-16747179.pdf?src-supplier=Future+Electronics
footprint RESC2013X065BN (Chip Resistor, 0805, Body 2.0x1.3mm, Pads modified for 1mm spacing.)
pins: 1 T1, 2 T2

## RES_RC0805JR-0768KL_YAGEO
designator R?  value 68k  (hidden comment: *)
RES SMD 68K OHM 5% 1/8W 0805; Manufacturer: Yageo; Manufacturer Part Number: RC0805JR-0768KL; BOM Populate: *; Tolerance: 5%; Digikey Part Number: 311-68KARCT-ND; Power Rating: 1/8W; Mouser Part Number: 603-RC0805JR-0768KL
footprint RESC2013X065BN (Chip Resistor, 0805, Body 2.0x1.3mm, Pads modified for 1mm spacing.)
pins: 1 T1, 2 T2

## RES_RC0805JR-07330RL_YAGEO
designator R?  value 330  Tolerance: 5%  (hidden comment: *)
RES SMD 330 OHM 5% 1/8W 0805; Manufacturer: Yageo; Manufacturer Part Number: RC0805JR-07330RL; BOM Populate: *; Supplier Part No: *; Supplier: *; Digikey Part Number: 311-330ARCT-ND; Power Rating: 1/8W; Mouser Part Number: 603-RC0805JR-07330RL
footprint RESC2013X065BN (Chip Resistor, 0805, Body 2.0x1.3mm, Pads modified for 1mm spacing.)
pins: 1 T1, 2 T2

## RES_RC1206FR-071KL_Yageo
designator R?  value 1K  (hidden comment: *)
RES SMD 1K OHM 1% 1/4W 1206; Manufacturer: Yageo; Manufacturer Part Number: RC1206FR-071KL; BOM Populate: *; Supplier Part No: *; Supplier: *; Tolerance: 1%; Digikey Part Number: 311-1.00KFRCT-ND; Power Rating: 1/4W; Mouser Part Number: 603-RC1206FR-071KL
footprint RESC3216N (Chip Resistor, Body 3.2x1.6mm, IPC Medium Density)
pins: 1 T1, 2 T2

## RES_RC1206FR-071RL
designator R?  value 1  (hidden comment: *)
YAGEO - RC1206FR-071RL - RES, THICK FILM, 1R, 1%, 0.25W, 1206; Voltage Rating (DC): 200V; Power Rating: 250mW; Temperature Coefficient: 200ppm/°C; Supplier 1: Digi-Key; Supplier Part Number 1: 311-1.00FRCT-ND; Manufacturer: Yageo; Manufacturer Part Number: RC1206FR-071RL; Category: Chip SMD Resistors; Case/Package: 1206; Number of Pins: 2; Case Code (Metric): 3216; Case Code (Imperial): 1206; Size Code: 1206; Min Operating Temperature: -55°C; Max Operating Temperature: 155°C; Resistor Type: Thick Film; Tolerance: 1%; Voltage Rating: 200V; Packaging: Tape and Reel; Package Quantity: 5000; Number of Terminations: 2; Termination: SMD/SMT; Max Power Dissipation: 250mW; Features: Moisture Resistant; Series: RC; Resistance Tolerance: 1%; Technology: THICK FILM; Construction: Rectangular; Length: 3.1mm; Width: 0.063inch; Height: 0.026inch; Depth: 1.6mm; RoHS Compliant: Yes; REACH SVHC: No SVHC; Military Standard: Not; Lead Free: Lead Free; ComponentLink1URL: https://datasheet.ciiva.com/11808/0900766b80c6630a-11808247.pdf?src-supplier=RSComponents; ComponentLink1Description: https://datasheet.ciiva.com/11808/0900766b80c6630a-11808247.pdf?src-supplier=RSComponents; ComponentLink2URL: https://datasheet.ciiva.com/16905/pyu-rc1206-51-rohs-l-4-16905929.pdf?src-supplier=Future+Electronics; ComponentLink2Description: https://datasheet.ciiva.com/16905/pyu-rc1206-51-rohs-l-4-16905929.pdf?src-supplier=Future+Electronics; ComponentLink3URL: https://datasheet.ciiva.com/46445/444357-46445710.pdf?src-supplier=Element14; ComponentLink3Description: https://datasheet.ciiva.com/46445/444357-46445710.pdf?src-supplier=Element14
footprint RESC3216N (Chip Resistor, Body 3.2x1.6mm, IPC Medium Density)
pins: 1 T1, 2 T2

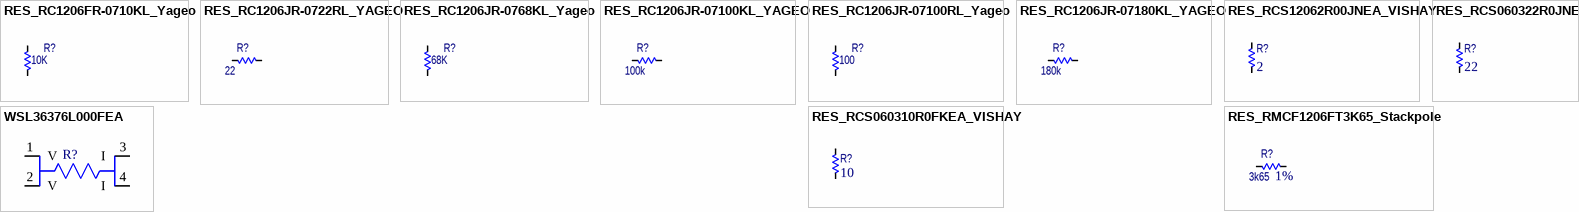
[diagram p1: symbols RES_RC1206FR-0710KL_Yageo to WSL36376L000FEA]

## RES_RC1206FR-0710KL_Yageo
designator R?  value 10K  (hidden comment: *)
RES SMD 10K OHM 1% 1/4W 1206; Manufacturer: Yageo; Manufacturer Part Number: RC1206FR-0710KL; BOM Populate: *; Supplier Part No: *; Supplier: *; Tolerance: 1%; Digikey Part Number: 311-10.0KFRCT-ND; Power Rating: 1/4W; Mouser Part Number: 603-RC1206FR-0710KL
footprint RESC3216N (Chip Resistor, Body 3.2x1.6mm, IPC Medium Density)
pins: 1 T1, 2 T2

## RES_RC1206JR-0722RL_YAGEO
designator R?  value 22  (hidden comment: *)
RES SMD 22 OHM 5% 1/4W 1206; Manufacturer: YAGEO; Manufacturer Part Number: RC1206JR-0722RL; BOM Populate: *; Digikey Part Number: 311-22ERCT-ND; Power Rating: 1/4W; Mouser Part Number: 603-RC1206JR-0722RL; Tolerance: 5%
footprint RESC3216N (Chip Resistor, Body 3.2x1.6mm, IPC Medium Density)
pins: 1 T1, 2 T2

## RES_RC1206JR-0768KL_Yageo
designator R?  value 68K  (hidden comment: *)
RES SMD 68K OHM 5% 1/4W 1206; Manufacturer: Yageo; Manufacturer Part Number: RC1206JR-0768KL; BOM Populate: *; Supplier Part No: *; Supplier: *; Tolerance: 5%; Digikey Part Number: 311-68KERCT-ND; Power Rating: 1/4W; Mouser Part Number: 603-RC1206JR-0768KL
footprint RESC3216N (Chip Resistor, Body 3.2x1.6mm, IPC Medium Density)
pins: 1 T1, 2 T2

## RES_RC1206JR-07100KL_YAGEO
designator R?  value 100k  (hidden comment: *)
RES SMD 100K OHM 5% 1/4W 1206; Manufacturer: YAGEO; Manufacturer Part Number: RC1206JR-07100KL; BOM Populate: *; Digikey Part Number: 311-100KERCT-ND; Power Rating: 1/4W; Mouser Part Number: 603-RC1206JR-07100KL; Tolerance: 5%
footprint RESC3216N (Chip Resistor, Body 3.2x1.6mm, IPC Medium Density)
pins: 1 T1, 2 T2

## RES_RC1206JR-07100RL_Yageo
designator R?  value 100  (hidden comment: *)
RES SMD 100 OHM 5% 1/4W 1206; Manufacturer: Yageo; Manufacturer Part Number: RC1206JR-07100RL; BOM Populate: *; Supplier Part No: *; Supplier: *; Tolerance: 5%; Digikey Part Number: 311-100ERCT-ND; Power Rating: 1/4W; Mouser Part Number: 603-RC1206JR-07100RL
footprint RESC3216N (Chip Resistor, Body 3.2x1.6mm, IPC Medium Density)
pins: 1 T1, 2 T2

## RES_RC1206JR-07180KL_YAGEO
designator R?  value 180k  (hidden comment: *)
RES SMD 180K OHM 5% 1/4W 1206; Manufacturer: YAGEO; Manufacturer Part Number: RC1206JR-07180KL; BOM Populate: *; Digikey Part Number: 311-180KERCT-ND; Power Rating: 1/4W; Mouser Part Number: 603-RC1206JR-07180KL; Tolerance: 5%
footprint RESC3216N (Chip Resistor, Body 3.2x1.6mm, IPC Medium Density)
pins: 1 T1, 2 T2

## RES_RCS12062R00JNEA_VISHAY
designator R?  value 2  (hidden comment: *)
RES SMD 2 OHM 5% 1/2W 1206 ANTI SURGE; Manufacturer: Vishay; Manufacturer Part Number: RCS12062R00JNEA; Supplier 1: Digi-Key; Supplier Part Number 1: 541-10617-1-ND; RoHS: No; Category: Chip SMD Resistors; Stock 1: 9930; Pricing 1: 1=0,26000, 10=0,22300, 100=0,08730, 1000=0,03654, 2500=0,03350 (USD)
footprint RES_RCS1206e3_VISHAY
pins: 1 T1, 2 T2

## RES_RCS060310R0FKEA_VISHAY
designator R?  value 10  (hidden comment: *)
RES SMD 10 OHM 1% 1/4W 0603 ANTI SURGE; Manufacturer: Vishay Dale; Manufacturer Part Number: RCS060310R0FKEA; Resistance: 10R; Max Power Dissipation: 250mW; Temperature Coefficient: 100ppm/°C; Supplier 1: Digi-Key; Supplier Part Number 1: 541-2781-1-ND; RoHS: Yes; Category: Chip SMD Resistors; Stock 1: 2034; Pricing 1: 1=0,13000, 10=0,11600, 100=0,04450, 1000=0,01958, 2500=0,01691 (USD); Case/Package: 0603; Case Code (Metric): 1608; Case Code (Imperial): 0603; Min Operating Temperature: -55°C; Max Operating Temperature: 155°C; Features: Automotive AEC-Q200; Packaging: Tape and Reel; Resistor Type: Thick Film; Number of Terminations: 2; Tolerance: 1%; Length: 0.061inch; Width: 0.033inch; Height: 0.02inch; ComponentLink1URL: http://www.vishay.com/docs/20065/rcse3.pdf?src-supplier=Digi-Key; ComponentLink1Description: http://www.vishay.com/docs/20065/rcse3.pdf?src-supplier=Digi-Key
footprint RES_RCS0603E3_VISHAY
pins: 1 T1, 2 T2

## RES_RCS060322R0JNEA
designator R?  value 22  (hidden comment: *)
Res Thick Film 0603 22 Ohm 5% 0.25W(1/4W) ±200ppm/°C Pad SMD Automotive T/R; Manufacturer: Vishay Dale; Manufacturer Part Number: RCS060322R0JNEA; Max Power Dissipation: 250mW; Resistance: 22R; Supplier 1: Digi-Key; Supplier Part Number 1: 541-2809-1-ND; RoHS: Yes; Category: Chip SMD Resistors; Stock 1: 14770; Pricing 1: 1=0,13000, 10=0,11700, 100=0,04500, 1000=0,01980, 2500=0,01710 (USD); Case/Package: 0603; Case Code (Imperial): 0603; Case Code (Metric): 1608; Min Operating Temperature: -55°C; Max Operating Temperature: 155°C; Tolerance: 5%; Temperature Coefficient: 200ppm/°C; Features: Automotive AEC-Q200; Packaging: Tape and Reel; Resistor Type: Thick Film; Number of Terminations: 2; Length: 0.061inch; Width: 0.033inch; Height: 0.02inch; ComponentLink1URL: http://www.vishay.com/docs/20065/rcse3.pdf?src-supplier=Digi-Key; ComponentLink1Description: http://www.vishay.com/docs/20065/rcse3.pdf?src-supplier=Digi-Key
footprint RES_RCS0603E3_VISHAY
pins: 1 T1, 2 T2

## RES_RMCF1206FT3K65_Stackpole
designator R?  value 3k65  Tolerance: 1%  (hidden comment: *)
RES SMD 3.65K OHM 1% 1/4W 1206; Manufacturer: Stackpole; BOM Populate: *; Supplier Part No: *; Supplier: *; Digikey Part Number: RMCF1206FT3K65DKR-ND; Power Rating: 1/4W; Manufacturer Part Number: *; Mouser Part Number: *
footprint RESC3216N (Chip Resistor, Body 3.2x1.6mm, IPC Medium Density)
pins: 1 T1, 2 T2

## WSL36376L000FEA
designator R?  (value not drawn)
WSL Series 3637 3 W 0.006 Ohm ±1% ±50 ppm/°C SMT Power Metal Strip® Resistor; Manufacturer: Vishay Dale; Manufacturer Part Number: WSL36376L000FEA; Value: 6mR; Power Rating: 3W; Supplier 1: Digi-Key; Supplier Part Number 1: WSLI-.006CT-ND; Category: Chip SMD Resistors; Case/Package: 3637; Contact Plating: Tin; Case Code (Metric): 9194; Weight: 0.010229oz; Case Code (Imperial): 3637; Size Code: 3637; Min Operating Temperature: -65°C; Max Operating Temperature: 170°C; Tolerance: 1%; Packaging: Tape and Reel; Package Quantity: 4000; Resistor Type: Metal Strip; Temperature Coefficient: 50ppm/°C; Max Power Dissipation: 3W; Termination: SMD/SMT; Features: Moisture Resistant,Automotive AEC-Q200,Anti-Sulfur; Series: WSL; Number of Terminations: 4; Length: 9.14mm; Width: 9.4mm; Height: 0.635mm; Radiation Hardening: No; Lead Free: Lead Free; RoHS Compliant: Yes; ComponentLink1URL: https://datasheet.ciiva.com/9064/wsl3637-9064007.pdf?src-supplier=Avnet; ComponentLink1Description: https://datasheet.ciiva.com/9064/wsl3637-9064007.pdf?src-supplier=Avnet; ComponentLink2URL: https://datasheet.ciiva.com/17193/wsl3637-17193820.pdf?src-supplier=Avnet+Europe; ComponentLink2Description: https://datasheet.ciiva.com/17193/wsl3637-17193820.pdf?src-supplier=Avnet+Europe; ComponentLink3URL: https://datasheet.ciiva.com/16215/wsl3637-16215263.pdf?src-supplier=Future+Electronics; ComponentLink3Description: https://datasheet.ciiva.com/16215/wsl3637-16215263.pdf?src-supplier=Future+Electronics
footprint RES_WSL36376L000FEA
pins: 1 V, 2 V, 3 I, 4 I